# EAGLE library part DS1337 (library eagle-library-edeca.net-v5)
DS1337 I2C serial real-time clock Low-power clock/calendar with two programmable time-of-day alarms and a programmable square-wave output. http://pdfserv.maxim-ic.com/en/ds/DS1337-DS1337C.pdf
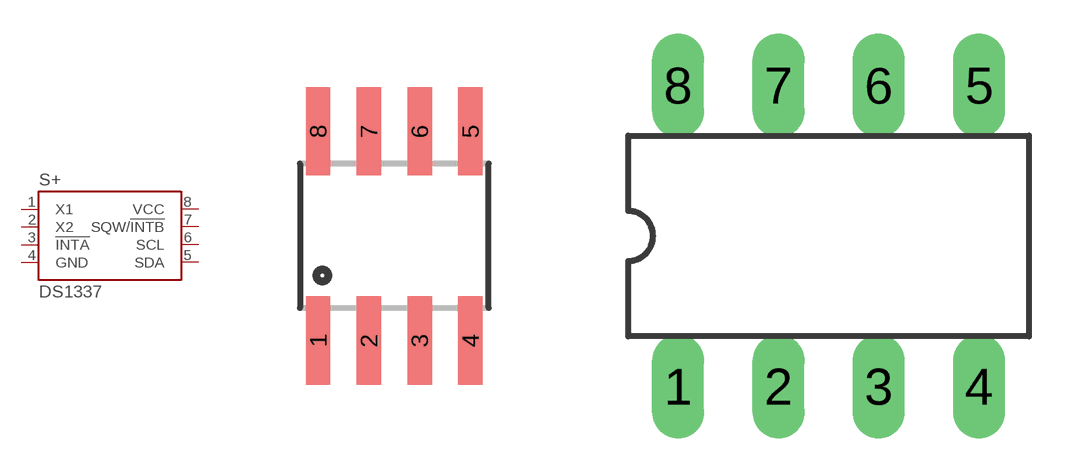
[diagram p11: symbol with the pads of SO8; footprints SO8, DIL8]

Designator prefix S+

## DS1337S+  [SO8]
1  X1
2  X2
3  !INTA
4  GND
5  SDA
6  SCL
7  SQW/!INTB!
8  VCC

## DS1337+  [DIL8]
Pads as for SO8

## Footprint SO8 (pad centres in mm)
smd 0.61 x 2.21: 1 -1.905,-2.616; 2 -0.635,-2.616; 3 0.635,-2.616; 4 1.905,-2.616; 5 1.905,2.616; 6 0.635,2.616; 7 -0.635,2.616; 8 -1.905,2.616

## Footprint DIL8 (pad centres in mm)
drill 0.813 long: 1 -3.81,-3.81; 2 -1.27,-3.81; 3 1.27,-3.81; 4 3.81,-3.81; 5 3.81,3.81; 6 1.27,3.81; 7 -1.27,3.81; 8 -3.81,3.81